# Altium integrated library PRO-OB-440.IntLib: 1 symbol
Pins are listed as number, name and electrical type; pins without a type are passive.

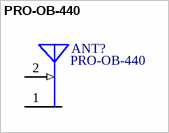
[diagram p0: symbol PRO-OB-440]

## PRO-OB-440
designator ANT?
/ 2.4GHz Bluetooth, WirelessHART, WLAN, Zigbeeâ„¢ Stamped Metal RF Antenna 2.4GHz ~ 2.5GHz Solder Surface Mount /; MF: Proant AB; Digi-Key_Purchase_URL: https://www.digikey.com/product-detail/en/proant-ab/PRO-OB-440/1532-1001-1-ND/4895684?utm_source=snapeda&utm_medium=aggregator&utm_campaign=symbol; MP: PRO-OB-440; Package: None; SnapEDA_Link: https://www.snapeda.com/parts/PRO-OB-440/Proant%20AB/view-part/2307534/?ref=snap; Digi-Key_Part_Number: 1532-1001-1-ND; Value: *
footprint *ANT_PRO-OB-440
pins: 1 GND (power), 2 FEED (in)